# Altium integrated library SFM10.IntLib: 1 symbol
Pins are listed as number, name and electrical type; pins without a type are passive.

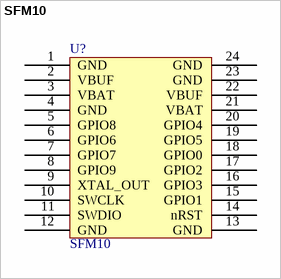
[diagram p0: symbol SFM10]

## SFM10
designator U?
SynchronicIT SFM10 module with on-board ceramic antenna based on NXP OL23D0; ComponentLink1Description: website; ComponentLink1URL: https://www.synchronicit.nl/
footprint sfm10
pins: 1 GND, 2 VBUF, 3 VBAT, 4 GND, 5 GPIO8, 6 GPIO6, 7 GPIO7, 8 GPIO9, 9 XTAL_OUT, 10 SWCLK, 11 SWDIO, 12 GND, 13 GND, 14 nRST, 15 GPIO1, 16 GPIO3, 17 GPIO2, 18 GPIO0, 19 GPIO5, 20 GPIO4, 21 VBAT, 22 VBUF, 23 GND, 24 GND